# EAGLE library part SPH-IMPROVED (library SPH0645LM4H-B)
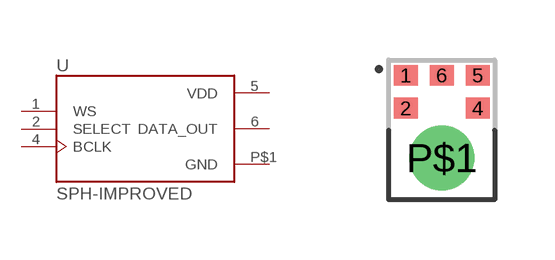
[diagram p1: symbol with the pads of MIC_SPH0645LM4H-B_LARGER_RING; footprint MIC_SPH0645LM4H-B_LARGER_RING]

Designator prefix -

## SPH-IMPROVED  [MIC_SPH0645LM4H-B_LARGER_RING]
1  WS  in
2  SELECT  in
4  BCLK  in
5  VDD  pwr
6  DATA_OUT  out
P$1  GND  pwr

## Footprint MIC_SPH0645LM4H-B_LARGER_RING (pad centres in mm)
smd 0.6 x 0.522: 1 -0.9,2.074; 2 -0.9,1.252; 4 0.9,1.252; 5 0.9,2.074; 6 0,2.074
drill 1 pad 1.626: P$1 0,0